# Altium footprint library TQFN-EP-32.PcbLib: 1 footprints
Each footprint in its own frame and in the unit in brackets; x right, y up, seen from the top. Pads: shape width x height; smd on the part's side, far side on the other; paste and mask are expansions set on the pad; w line width, h text height; cw(c..) or ccw(c..) is an arc to the next point about the centre after c.
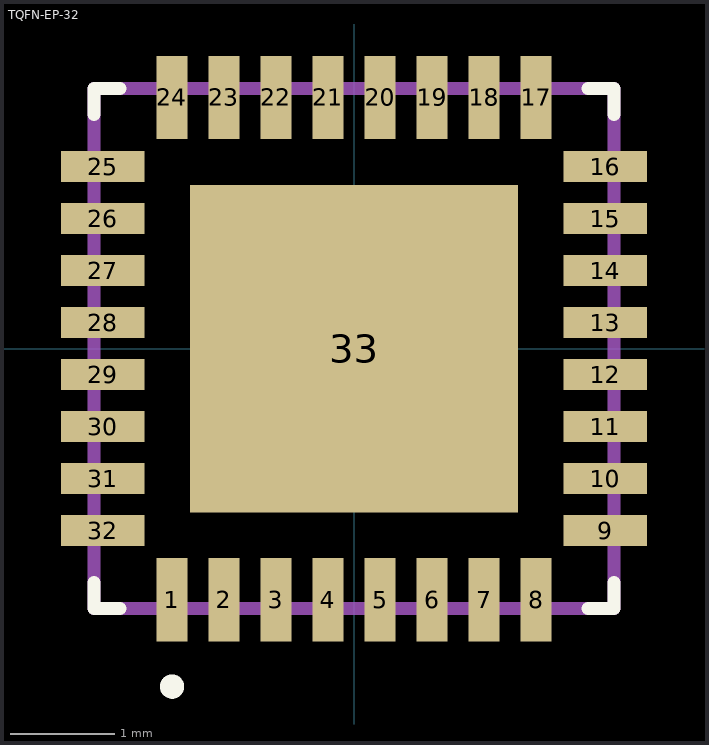
[diagram p0: the footprint, top view; thin cyan lines are the x and y axes]

## TQFN-EP-32 [mm]
pads (33):
  rect 0.3x0.8 smd mask+0.051: 1(-1.75,-2.415) 2(-1.25,-2.415) 3(-0.75,-2.415) 4(-0.25,-2.415) 5(0.25,-2.415) 6(0.75,-2.415) 7(1.25,-2.415) 8(1.75,-2.415) 17(1.75,2.415) 18(1.25,2.415) 19(0.75,2.415) 20(0.25,2.415) 21(-0.25,2.415) 22(-0.75,2.415) 23(-1.25,2.415) 24(-1.75,2.415)
  rect 0.8x0.3 smd mask+0.051: 9(2.415,-1.75) 10(2.415,-1.25) 11(2.415,-0.75) 12(2.415,-0.25) 13(2.415,0.25) 14(2.415,0.75) 15(2.415,1.25) 16(2.415,1.75) 25(-2.415,1.75) 26(-2.415,1.25) 27(-2.415,0.75) 28(-2.415,0.25) 29(-2.415,-0.25) 30(-2.415,-0.75) 31(-2.415,-1.25) 32(-2.415,-1.75)
  rect 3.15x3.15 smd mask+0.051: 33(0,0)
Top Overlay:
  circle w0.127: c-1.75,-3.25 r0.054
  lines w0.127: -2.5,-2.25 -2.5,-2.5 -2.25,-2.5 ; -2.5,2.25 -2.5,2.5 -2.25,2.5 ; 2.25,-2.5 2.5,-2.5 2.5,-2.25 ; 2.25,2.5 2.5,2.5 2.5,2.25
Top Designator:
  text ".Designator" at -7.618,-0.759 h1.52
Mechanical 13:
  lines w0.127: -2.5,-2.5 2.5,-2.5 2.5,2.5 -2.5,2.5 -2.5,-2.5
Mechanical 15:
  lines w0.127: -0.25,0 0,0 ; 0,-0.25 0,0 ; 0,0.25 0,0 ; 0.25,0 0,0
3D body "21-0140_T32554_MXM.step": height 0.76, standoff 0, extent -2.502,-2.489 2.502,2.515